# Altium integrated library NSC Amplifier.IntLib: 1615 symbols (part 34 of 44)
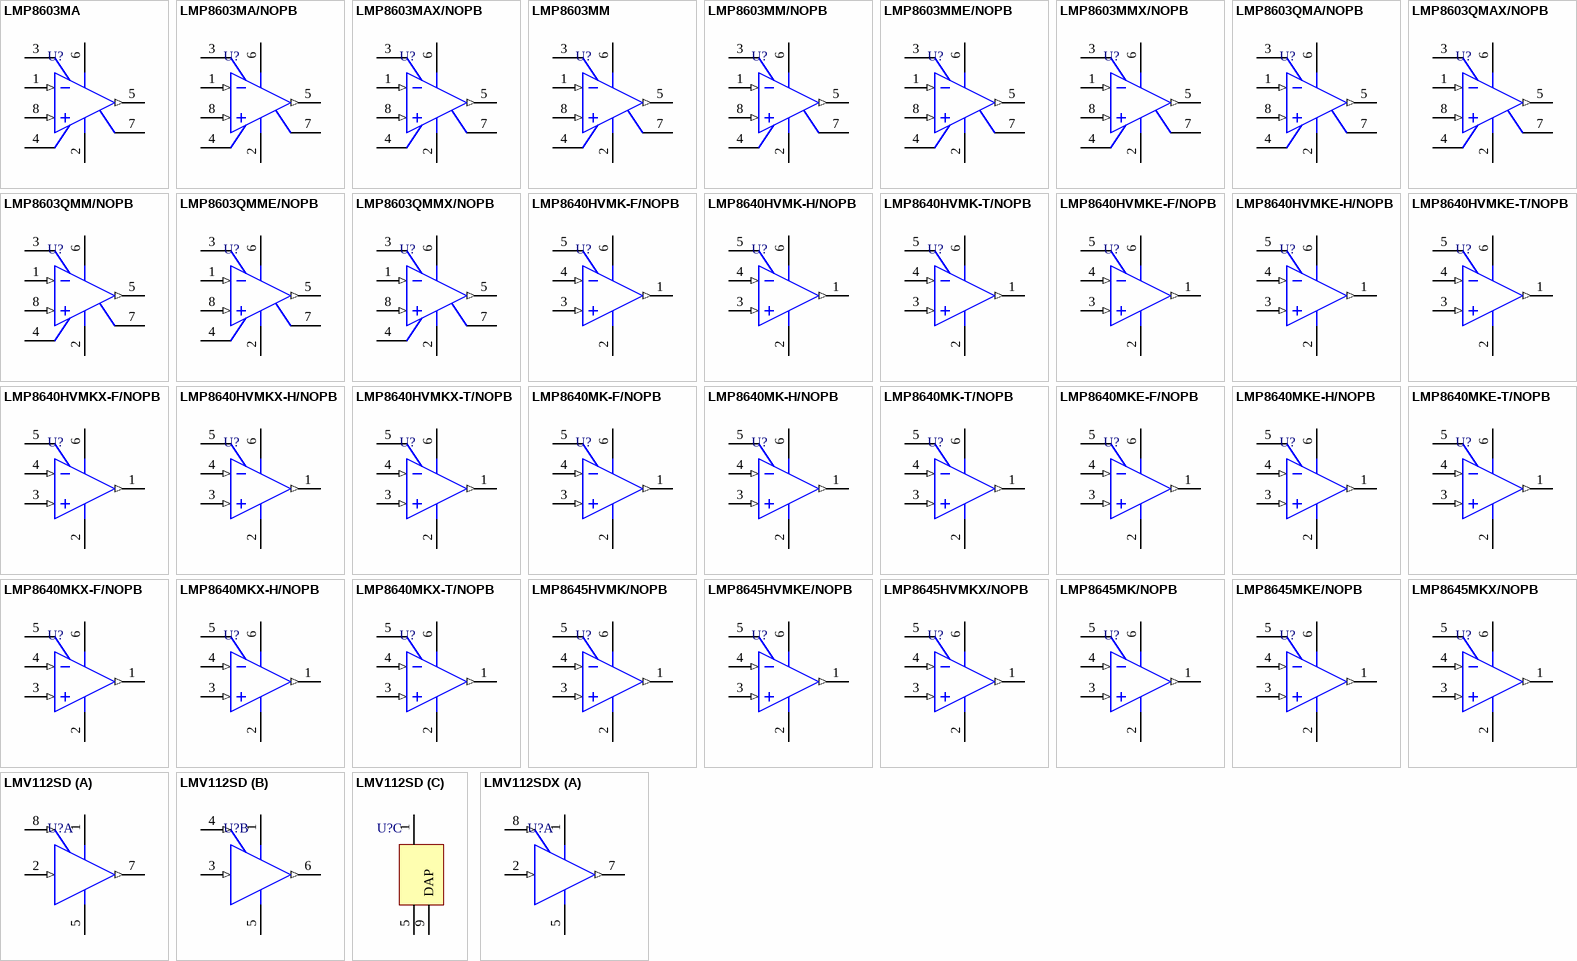
[diagram p115: symbols LMP8603MA to LMV112SDX]

## LMP8603MM
designator U?
60V Common Mode, 100 x Gain, Bidirectional Precision Current Sensing Amplifier, 8-pin Mini SOIC; PartNumber: LMP8603MM; Manufacturer: National Semiconductor; PackageTopMarking: ZXTT*AP3A; PowerWise: N; CompType: Amplifiers; Published: 9-Oct-2009; DatasheetVersion: Mar-2010; PackageVersion: revF, Apr-2008; PackageReference: MUA08A; Publisher: Altium Limited; PackageDescription: MINI SOIC, .118 x .118 x .034in, 8 Lead, .0256in Pitch; RoHS: Y; PinCount: 8; Code_JEDEC: MO-187-AA; ComponentLink1Description: LMP8602 Datasheet; ComponentLink1URL: http://www.national.com/ds/LM/LMP8602.pdf; ComponentLink2Description: LMP8603 Web Page; ComponentLink2URL: http://www.national.com/pf/LM/LMP8603.html; ComponentLink3Description: MUA08A Package Page; ComponentLink3URL: http://www.national.com/packaging/folders/mua08a.html
footprint MUA08A_N (TSOP, 8-Leads, Body 3x3mm, Pitch 0.65mm, IPC Medium Density)
footprint MUA08A_L (TSOP, 8-Leads, Body 3x3mm, Pitch 0.65mm, IPC High Density)
footprint MUA08A_M (TSOP, 8-Leads, Body 3x3mm, Pitch 0.65mm, IPC Low Density)
pins: 1 IN- (in), 2 GND (power), 3 A1, 4 A2, 5 OUT (out), 6 VS (power), 7 OFS, 8 IN+ (in)

## LMP8603MM/NOPB
designator U?
60V Common Mode, 100 x Gain, Bidirectional Precision Current Sensing Amplifier, 8-pin Mini SOIC, Pb-Free; PartNumber: LMP8603MM/NOPB; Manufacturer: National Semiconductor; PackageTopMarking: ZXTT*AP3A; PowerWise: N; CompType: Amplifiers; Published: 1-Mar-2010; DatasheetVersion: Mar-2010; PackageVersion: revF, Apr-2008; PackageReference: MUA08A; Publisher: Altium Limited; PackageDescription: MINI SOIC, .118 x .118 x .034in, 8 Lead, .0256in Pitch; Supplier 1: Digi-Key; Supplier Part Number 1: LMP8603MM-ND; RoHS: Y; PinCount: 8; Code_JEDEC: MO-187-AA; ComponentLink1Description: LMP8603 Datasheet; ComponentLink1URL: http://www.national.com/ds/LM/LMP8603.pdf; ComponentLink2Description: LMP8603 Web Page; ComponentLink2URL: http://www.national.com/pf/LM/LMP8603.html; ComponentLink3Description: MUA08A Package Page; ComponentLink3URL: http://www.national.com/packaging/folders/mua08a.html
footprint MUA08A_N (TSOP, 8-Leads, Body 3x3mm, Pitch 0.65mm, IPC Medium Density)
footprint MUA08A_L (TSOP, 8-Leads, Body 3x3mm, Pitch 0.65mm, IPC High Density)
footprint MUA08A_M (TSOP, 8-Leads, Body 3x3mm, Pitch 0.65mm, IPC Low Density)
simulation model LMP8603 (SUBCKT)
pins: 1 IN- (in), 2 GND (power), 3 A1, 4 A2, 5 OUT (out), 6 VS (power), 7 OFS, 8 IN+ (in)

## LMP8603MME/NOPB
designator U?
60V Common Mode, 100 x Gain, Bidirectional Precision Current Sensing Amplifier, 8-pin Mini SOIC, Pb-Free; PartNumber: LMP8603MME/NOPB; Manufacturer: National Semiconductor; PackageTopMarking: ZXTT*AP3A; PowerWise: N; CompType: Amplifiers; Published: 1-Mar-2010; DatasheetVersion: Mar-2010; PackageVersion: revF, Apr-2008; PackageReference: MUA08A; Publisher: Altium Limited; PackageDescription: MINI SOIC, .118 x .118 x .034in, 8 Lead, .0256in Pitch; Supplier 1: Digi-Key; Supplier Part Number 1: LMP8603MMETR-ND; Supplier 2: Digi-Key; Supplier Part Number 2: LMP8603MMECT-ND; Supplier 3: Digi-Key; Supplier Part Number 3: LMP8603MMEDKR-ND; RoHS: Y; PinCount: 8; Code_JEDEC: MO-187-AA; ComponentLink1Description: LMP8603 Datasheet; ComponentLink1URL: http://www.national.com/ds/LM/LMP8603.pdf; ComponentLink2Description: LMP8603 Web Page; ComponentLink2URL: http://www.national.com/pf/LM/LMP8603.html; ComponentLink3Description: MUA08A Package Page; ComponentLink3URL: http://www.national.com/packaging/folders/mua08a.html
footprint MUA08A_N (TSOP, 8-Leads, Body 3x3mm, Pitch 0.65mm, IPC Medium Density)
footprint MUA08A_L (TSOP, 8-Leads, Body 3x3mm, Pitch 0.65mm, IPC High Density)
footprint MUA08A_M (TSOP, 8-Leads, Body 3x3mm, Pitch 0.65mm, IPC Low Density)
simulation model LMP8603 (SUBCKT)
pins: 1 IN- (in), 2 GND (power), 3 A1, 4 A2, 5 OUT (out), 6 VS (power), 7 OFS, 8 IN+ (in)

## LMP8603MMX/NOPB
designator U?
60V Common Mode, 100 x Gain, Bidirectional Precision Current Sensing Amplifier, 8-pin Mini SOIC, Pb-Free; PartNumber: LMP8603MMX/NOPB; Manufacturer: National Semiconductor; PackageTopMarking: ZXTT*AP3A; PowerWise: N; CompType: Amplifiers; Published: 1-Mar-2010; DatasheetVersion: Mar-2010; PackageVersion: revF, Apr-2008; PackageReference: MUA08A; Publisher: Altium Limited; PackageDescription: MINI SOIC, .118 x .118 x .034in, 8 Lead, .0256in Pitch; Supplier 1: Digi-Key; Supplier Part Number 1: LMP8603MMX-ND; RoHS: Y; PinCount: 8; Code_JEDEC: MO-187-AA; ComponentLink1Description: LMP8603 Datasheet; ComponentLink1URL: http://www.national.com/ds/LM/LMP8603.pdf; ComponentLink2Description: LMP8603 Web Page; ComponentLink2URL: http://www.national.com/pf/LM/LMP8603.html; ComponentLink3Description: MUA08A Package Page; ComponentLink3URL: http://www.national.com/packaging/folders/mua08a.html
footprint MUA08A_N (TSOP, 8-Leads, Body 3x3mm, Pitch 0.65mm, IPC Medium Density)
footprint MUA08A_L (TSOP, 8-Leads, Body 3x3mm, Pitch 0.65mm, IPC High Density)
footprint MUA08A_M (TSOP, 8-Leads, Body 3x3mm, Pitch 0.65mm, IPC Low Density)
simulation model LMP8603 (SUBCKT)
pins: 1 IN- (in), 2 GND (power), 3 A1, 4 A2, 5 OUT (out), 6 VS (power), 7 OFS, 8 IN+ (in)

## LMP8603QMA/NOPB
designator U?
60V Common Mode, 100 x Gain, Bidirectional Precision Current Sensing Amplifier, 8 pin SOIC NARROW; PartNumber: LMP8603QMA/NOPB; Manufacturer: National Semiconductor; PackageTopMarking: NSZXTT*LMP86*03QMA; PowerWise: N; CompType: Amplifiers; Published: 16-Nov-2010; DatasheetVersion: Mar-2010; PackageVersion: revM, May-2009; PackageReference: M08A; Publisher: Altium Limited; PackageDescription: SOIC Narrow, 4.9 x 3.9 x 1.45mm, 8 Lead, 1.27mm Pitch; Supplier 1: Digi-Key; Supplier Part Number 1: LMP8603QMA-ND; RoHS: Y; PinCount: 8; Code_JEDEC: MS-012-AA; Code_IPC: SOIC127P600-8; ComponentLink1Description: LMP8603 Datasheet; ComponentLink1URL: http://www.national.com/ds/LM/LMP8603.pdf; ComponentLink2Description: LMP8603 Web Page; ComponentLink2URL: http://www.national.com/pf/LM/LMP8603.html; ComponentLink3Description: M08A Package Page; ComponentLink3URL: http://www.national.com/packaging/folders/m08a.html
footprint M08A_N (SOIC, 8-Leads, Body 4.9x3.9mm, Pitch 1.27mm, IPC Medium Density)
footprint M08A_L (SOIC, 8-Leads, Body 4.9x3.9mm, Pitch 1.27mm, IPC High Density)
footprint M08A_M (SOIC, 8-Leads, Body 4.9x3.9mm, Pitch 1.27mm, IPC Low Density)
pins: 1 IN- (in), 2 GND (power), 3 A1, 4 A2, 5 OUT (out), 6 VS (power), 7 OFS, 8 IN+ (in)

## LMP8603QMAX/NOPB
designator U?
60V Common Mode, 100 x Gain, Bidirectional Precision Current Sensing Amplifier, 8 pin SOIC NARROW; PartNumber: LMP8603QMAX/NOPB; Manufacturer: National Semiconductor; PackageTopMarking: NSZXTT*LMP86*03QMA; PowerWise: N; CompType: Amplifiers; Published: 16-Nov-2010; DatasheetVersion: Mar-2010; PackageVersion: revM, May-2009; PackageReference: M08A; Publisher: Altium Limited; PackageDescription: SOIC Narrow, 4.9 x 3.9 x 1.45mm, 8 Lead, 1.27mm Pitch; Supplier 1: Digi-Key; Supplier Part Number 1: LMP8603QMAX-ND; RoHS: Y; PinCount: 8; Code_JEDEC: MS-012-AA; Code_IPC: SOIC127P600-8; ComponentLink1Description: LMP8603 Datasheet; ComponentLink1URL: http://www.national.com/ds/LM/LMP8603.pdf; ComponentLink2Description: LMP8603 Web Page; ComponentLink2URL: http://www.national.com/pf/LM/LMP8603.html; ComponentLink3Description: M08A Package Page; ComponentLink3URL: http://www.national.com/packaging/folders/m08a.html
footprint M08A_N (SOIC, 8-Leads, Body 4.9x3.9mm, Pitch 1.27mm, IPC Medium Density)
footprint M08A_L (SOIC, 8-Leads, Body 4.9x3.9mm, Pitch 1.27mm, IPC High Density)
footprint M08A_M (SOIC, 8-Leads, Body 4.9x3.9mm, Pitch 1.27mm, IPC Low Density)
pins: 1 IN- (in), 2 GND (power), 3 A1, 4 A2, 5 OUT (out), 6 VS (power), 7 OFS, 8 IN+ (in)

## LMP8603QMM/NOPB
designator U?
60V Common Mode, 100 x Gain, Bidirectional Precision Current Sensing Amplifier, 8 pin Mini SOIC, Pb-Free; PartNumber: LMP8603QMM/NOPB; Manufacturer: National Semiconductor; PackageTopMarking: ZXTT*AH7A; PowerWise: N; CompType: Amplifiers; Published: 1-Mar-2010; DatasheetVersion: Mar-2010; PackageVersion: revF, Apr-2008; PackageReference: MUA08A; Publisher: Altium Limited; PackageDescription: MINI SOIC, .118 x .118 x .034in, 8 Lead, .0256in Pitch; Supplier 1: Digi-Key; Supplier Part Number 1: LMP8603QMM-ND; RoHS: Y; PinCount: 8; Code_JEDEC: MO-187-AA; ComponentLink1Description: LMP8603 Datasheet; ComponentLink1URL: http://www.national.com/ds/LM/LMP8603.pdf; ComponentLink2Description: LMP8603 Web Page; ComponentLink2URL: http://www.national.com/pf/LM/LMP8603.html; ComponentLink3Description: MUA08A Package Page; ComponentLink3URL: http://www.national.com/packaging/folders/mua08a.html
footprint MUA08A_N (TSOP, 8-Leads, Body 3x3mm, Pitch 0.65mm, IPC Medium Density)
footprint MUA08A_L (TSOP, 8-Leads, Body 3x3mm, Pitch 0.65mm, IPC High Density)
footprint MUA08A_M (TSOP, 8-Leads, Body 3x3mm, Pitch 0.65mm, IPC Low Density)
simulation model LMP8603 (SUBCKT)
pins: 1 IN- (in), 2 GND (power), 3 A1, 4 A2, 5 OUT (out), 6 VS (power), 7 OFS, 8 IN+ (in)

## LMP8603QMME/NOPB
designator U?
60V Common Mode, 100 x Gain, Bidirectional Precision Current Sensing Amplifier, 8 pin Mini SOIC, Pb-Free; PartNumber: LMP8603QMME/NOPB; Manufacturer: National Semiconductor; PackageTopMarking: ZXTT*AH7A; PowerWise: N; CompType: Amplifiers; Published: 1-Mar-2010; DatasheetVersion: Mar-2010; PackageVersion: revF, Apr-2008; PackageReference: MUA08A; Publisher: Altium Limited; PackageDescription: MINI SOIC, .118 x .118 x .034in, 8 Lead, .0256in Pitch; Supplier 1: Digi-Key; Supplier Part Number 1: LMP8603QMMETR-ND; Supplier 2: Digi-Key; Supplier Part Number 2: LMP8603QMMECT-ND; Supplier 3: Digi-Key; Supplier Part Number 3: LMP8603QMMEDKR-ND; RoHS: Y; PinCount: 8; Code_JEDEC: MO-187-AA; ComponentLink1Description: LMP8603 Datasheet; ComponentLink1URL: http://www.national.com/ds/LM/LMP8603.pdf; ComponentLink2Description: LMP8603 Web Page; ComponentLink2URL: http://www.national.com/pf/LM/LMP8603.html; ComponentLink3Description: MUA08A Package Page; ComponentLink3URL: http://www.national.com/packaging/folders/mua08a.html
footprint MUA08A_N (TSOP, 8-Leads, Body 3x3mm, Pitch 0.65mm, IPC Medium Density)
footprint MUA08A_L (TSOP, 8-Leads, Body 3x3mm, Pitch 0.65mm, IPC High Density)
footprint MUA08A_M (TSOP, 8-Leads, Body 3x3mm, Pitch 0.65mm, IPC Low Density)
simulation model LMP8603 (SUBCKT)
pins: 1 IN- (in), 2 GND (power), 3 A1, 4 A2, 5 OUT (out), 6 VS (power), 7 OFS, 8 IN+ (in)

## LMP8603QMMX/NOPB
designator U?
60V Common Mode, 100 x Gain, Bidirectional Precision Current Sensing Amplifier, 8 pin Mini SOIC, Pb-Free; PartNumber: LMP8603QMMX/NOPB; Manufacturer: National Semiconductor; PackageTopMarking: ZXTT*AH7A; PowerWise: N; CompType: Amplifiers; Published: 1-Mar-2010; DatasheetVersion: Mar-2010; PackageVersion: revF, Apr-2008; PackageReference: MUA08A; Publisher: Altium Limited; PackageDescription: MINI SOIC, .118 x .118 x .034in, 8 Lead, .0256in Pitch; Supplier 1: Digi-Key; Supplier Part Number 1: LMP8603QMMX-ND; RoHS: Y; PinCount: 8; Code_JEDEC: MO-187-AA; ComponentLink1Description: LMP8603 Datasheet; ComponentLink1URL: http://www.national.com/ds/LM/LMP8603.pdf; ComponentLink2Description: LMP8603 Web Page; ComponentLink2URL: http://www.national.com/pf/LM/LMP8603.html; ComponentLink3Description: MUA08A Package Page; ComponentLink3URL: http://www.national.com/packaging/folders/mua08a.html
footprint MUA08A_N (TSOP, 8-Leads, Body 3x3mm, Pitch 0.65mm, IPC Medium Density)
footprint MUA08A_L (TSOP, 8-Leads, Body 3x3mm, Pitch 0.65mm, IPC High Density)
footprint MUA08A_M (TSOP, 8-Leads, Body 3x3mm, Pitch 0.65mm, IPC Low Density)
simulation model LMP8603 (SUBCKT)
pins: 1 IN- (in), 2 GND (power), 3 A1, 4 A2, 5 OUT (out), 6 VS (power), 7 OFS, 8 IN+ (in)

## LMP8640HVMK-F/NOPB
designator U?
Precision High Voltage Current Sense Amplifier, 6 pin TSOT; PartNumber: LMP8640HVMK-F/NOPB; Manufacturer: National Semiconductor; PackageTopMarking: AD6A*XTT; PowerWise: N; CompType: Amplifiers; Published: 16-Nov-2010; DatasheetVersion: Sep-2010; PackageVersion: revE, Nov-2008; PackageReference: MK06A; Publisher: Altium Limited; PackageDescription: Molded TSOT, 2.97 x 1.65 x 0.87mm Body, 6 Lead, 0.95mm Pitch; Supplier 1: Digi-Key; Supplier Part Number 1: LMP8640HVMK-F/NOPB-ND; RoHS: Y; PinCount: 6; Code_JEDEC: MO-193-AA; Code_IPC: SOT26A-6; ComponentLink1Description: LMP8640 Datasheet; ComponentLink1URL: http://www.national.com/ds/LM/LMP8640.pdf; ComponentLink2Description: LMP8640 Web Page; ComponentLink2URL: http://www.national.com/pf/LM/LMP8640.html; ComponentLink3Description: MK06A Package Page; ComponentLink3URL: http://www.national.com/packaging/folders/mk06a.html
footprint MK06A_N (SOT23, 6-Leads, Body 3.0x1.7mm, Pitch 0.95mm, Lead Span 2.9mm, IPC Medium Density)
footprint MK06A_L (SOT23, 6-Leads, Body 3.0x1.7mm, Pitch 0.95mm, Lead Span 2.9mm, IPC High Density)
footprint MK06A_M (SOT23, 6-Leads, Body 3.0x1.7mm, Pitch 0.95mm, Lead Span 2.9mm, IPC Low Density)
pins: 1 VOUT (out), 2 V- (power), 3 +IN (in), 4 -IN (in), 5 NC, 6 V+ (power)

## LMP8640HVMK-H/NOPB
designator U?
Precision High Voltage Current Sense Amplifier, 6 pin TSOT; PartNumber: LMP8640HVMK-H/NOPB; Manufacturer: National Semiconductor; PackageTopMarking: AF6A*XTT; PowerWise: N; CompType: Amplifiers; Published: 16-Nov-2010; DatasheetVersion: Sep-2010; PackageVersion: revE, Nov-2008; PackageReference: MK06A; Publisher: Altium Limited; PackageDescription: Molded TSOT, 2.97 x 1.65 x 0.87mm Body, 6 Lead, 0.95mm Pitch; Supplier 1: Digi-Key; Supplier Part Number 1: LMP8640HVMK-H/NOPB-ND; RoHS: Y; PinCount: 6; Code_JEDEC: MO-193-AA; Code_IPC: SOT26A-6; ComponentLink1Description: LMP8640 Datasheet; ComponentLink1URL: http://www.national.com/ds/LM/LMP8640.pdf; ComponentLink2Description: LMP8640 Web Page; ComponentLink2URL: http://www.national.com/pf/LM/LMP8640.html; ComponentLink3Description: MK06A Package Page; ComponentLink3URL: http://www.national.com/packaging/folders/mk06a.html
footprint MK06A_N (SOT23, 6-Leads, Body 3.0x1.7mm, Pitch 0.95mm, Lead Span 2.9mm, IPC Medium Density)
footprint MK06A_L (SOT23, 6-Leads, Body 3.0x1.7mm, Pitch 0.95mm, Lead Span 2.9mm, IPC High Density)
footprint MK06A_M (SOT23, 6-Leads, Body 3.0x1.7mm, Pitch 0.95mm, Lead Span 2.9mm, IPC Low Density)
pins: 1 VOUT (out), 2 V- (power), 3 +IN (in), 4 -IN (in), 5 NC, 6 V+ (power)

## LMP8640HVMK-T/NOPB
designator U?
Precision High Voltage Current Sense Amplifier, 6 pin TSOT; PartNumber: LMP8640HVMK-T/NOPB; Manufacturer: National Semiconductor; PackageTopMarking: AB6A*XTT; PowerWise: N; CompType: Amplifiers; Published: 16-Nov-2010; DatasheetVersion: Sep-2010; PackageVersion: revE, Nov-2008; PackageReference: MK06A; Publisher: Altium Limited; PackageDescription: Molded TSOT, 2.97 x 1.65 x 0.87mm Body, 6 Lead, 0.95mm Pitch; Supplier 1: Digi-Key; Supplier Part Number 1: LMP8640HVMK-T/NOPB-ND; RoHS: Y; PinCount: 6; Code_JEDEC: MO-193-AA; Code_IPC: SOT26A-6; ComponentLink1Description: LMP8640 Datasheet; ComponentLink1URL: http://www.national.com/ds/LM/LMP8640.pdf; ComponentLink2Description: LMP8640 Web Page; ComponentLink2URL: http://www.national.com/pf/LM/LMP8640.html; ComponentLink3Description: MK06A Package Page; ComponentLink3URL: http://www.national.com/packaging/folders/mk06a.html
footprint MK06A_N (SOT23, 6-Leads, Body 3.0x1.7mm, Pitch 0.95mm, Lead Span 2.9mm, IPC Medium Density)
footprint MK06A_L (SOT23, 6-Leads, Body 3.0x1.7mm, Pitch 0.95mm, Lead Span 2.9mm, IPC High Density)
footprint MK06A_M (SOT23, 6-Leads, Body 3.0x1.7mm, Pitch 0.95mm, Lead Span 2.9mm, IPC Low Density)
pins: 1 VOUT (out), 2 V- (power), 3 +IN (in), 4 -IN (in), 5 NC, 6 V+ (power)

## LMP8640HVMKE-F/NOPB
designator U?
Precision High Voltage Current Sense Amplifier, 6 pin TSOT; PartNumber: LMP8640HVMKE-F/NOPB; Manufacturer: National Semiconductor; PackageTopMarking: AD6A*XTT; PowerWise: N; CompType: Amplifiers; Published: 16-Nov-2010; DatasheetVersion: Sep-2010; PackageVersion: revE, Nov-2008; PackageReference: MK06A; Publisher: Altium Limited; PackageDescription: Molded TSOT, 2.97 x 1.65 x 0.87mm Body, 6 Lead, 0.95mm Pitch; Supplier 1: Digi-Key; Supplier Part Number 1: LMP8640HVMKE-F/NOPBTR-ND; Supplier 2: Digi-Key; Supplier Part Number 2: LMP8640HVMKE-F/NOPBCT-ND; Supplier 3: Digi-Key; Supplier Part Number 3: LMP8640HVMKE-F/NOPBDKR-ND; RoHS: Y; PinCount: 6; Code_JEDEC: MO-193-AA; Code_IPC: SOT26A-6; ComponentLink1Description: LMP8640 Datasheet; ComponentLink1URL: http://www.national.com/ds/LM/LMP8640.pdf; ComponentLink2Description: LMP8640 Web Page; ComponentLink2URL: http://www.national.com/pf/LM/LMP8640.html; ComponentLink3Description: MK06A Package Page; ComponentLink3URL: http://www.national.com/packaging/folders/mk06a.html
footprint MK06A_N (SOT23, 6-Leads, Body 3.0x1.7mm, Pitch 0.95mm, Lead Span 2.9mm, IPC Medium Density)
footprint MK06A_L (SOT23, 6-Leads, Body 3.0x1.7mm, Pitch 0.95mm, Lead Span 2.9mm, IPC High Density)
footprint MK06A_M (SOT23, 6-Leads, Body 3.0x1.7mm, Pitch 0.95mm, Lead Span 2.9mm, IPC Low Density)
pins: 1 VOUT (out), 2 V- (power), 3 +IN (in), 4 -IN (in), 5 NC, 6 V+ (power)

## LMP8640HVMKE-H/NOPB
designator U?
Precision High Voltage Current Sense Amplifier, 6 pin TSOT; PartNumber: LMP8640HVMKE-H/NOPB; Manufacturer: National Semiconductor; PackageTopMarking: AF6A*XTT; PowerWise: N; CompType: Amplifiers; Published: 16-Nov-2010; DatasheetVersion: Sep-2010; PackageVersion: revE, Nov-2008; PackageReference: MK06A; Publisher: Altium Limited; PackageDescription: Molded TSOT, 2.97 x 1.65 x 0.87mm Body, 6 Lead, 0.95mm Pitch; Supplier 1: Digi-Key; Supplier Part Number 1: LMP8640HVMKE-H/NOPBTR-ND; Supplier 2: Digi-Key; Supplier Part Number 2: LMP8640HVMKE-H/NOPBCT-ND; Supplier 3: Digi-Key; Supplier Part Number 3: LMP8640HVMKE-H/NOPBDKR-ND; RoHS: Y; PinCount: 6; Code_JEDEC: MO-193-AA; Code_IPC: SOT26A-6; ComponentLink1Description: LMP8640 Datasheet; ComponentLink1URL: http://www.national.com/ds/LM/LMP8640.pdf; ComponentLink2Description: LMP8640 Web Page; ComponentLink2URL: http://www.national.com/pf/LM/LMP8640.html; ComponentLink3Description: MK06A Package Page; ComponentLink3URL: http://www.national.com/packaging/folders/mk06a.html
footprint MK06A_N (SOT23, 6-Leads, Body 3.0x1.7mm, Pitch 0.95mm, Lead Span 2.9mm, IPC Medium Density)
footprint MK06A_L (SOT23, 6-Leads, Body 3.0x1.7mm, Pitch 0.95mm, Lead Span 2.9mm, IPC High Density)
footprint MK06A_M (SOT23, 6-Leads, Body 3.0x1.7mm, Pitch 0.95mm, Lead Span 2.9mm, IPC Low Density)
pins: 1 VOUT (out), 2 V- (power), 3 +IN (in), 4 -IN (in), 5 NC, 6 V+ (power)

## LMP8640HVMKE-T/NOPB
designator U?
Precision High Voltage Current Sense Amplifier, 6 pin TSOT; PartNumber: LMP8640HVMKE-T/NOPB; Manufacturer: National Semiconductor; PackageTopMarking: AB6A*XTT; PowerWise: N; CompType: Amplifiers; Published: 16-Nov-2010; DatasheetVersion: Sep-2010; PackageVersion: revE, Nov-2008; PackageReference: MK06A; Publisher: Altium Limited; PackageDescription: Molded TSOT, 2.97 x 1.65 x 0.87mm Body, 6 Lead, 0.95mm Pitch; Supplier 1: Digi-Key; Supplier Part Number 1: LMP8640HVMKE-T/NOPBTR-ND; Supplier 2: Digi-Key; Supplier Part Number 2: LMP8640HVMKE-T/NOPBCT-ND; Supplier 3: Digi-Key; Supplier Part Number 3: LMP8640HVMKE-T/NOPBDKR-ND; RoHS: Y; PinCount: 6; Code_JEDEC: MO-193-AA; Code_IPC: SOT26A-6; ComponentLink1Description: LMP8640 Datasheet; ComponentLink1URL: http://www.national.com/ds/LM/LMP8640.pdf; ComponentLink2Description: LMP8640 Web Page; ComponentLink2URL: http://www.national.com/pf/LM/LMP8640.html; ComponentLink3Description: MK06A Package Page; ComponentLink3URL: http://www.national.com/packaging/folders/mk06a.html
footprint MK06A_N (SOT23, 6-Leads, Body 3.0x1.7mm, Pitch 0.95mm, Lead Span 2.9mm, IPC Medium Density)
footprint MK06A_L (SOT23, 6-Leads, Body 3.0x1.7mm, Pitch 0.95mm, Lead Span 2.9mm, IPC High Density)
footprint MK06A_M (SOT23, 6-Leads, Body 3.0x1.7mm, Pitch 0.95mm, Lead Span 2.9mm, IPC Low Density)
pins: 1 VOUT (out), 2 V- (power), 3 +IN (in), 4 -IN (in), 5 NC, 6 V+ (power)

## LMP8640HVMKX-F/NOPB
designator U?
Precision High Voltage Current Sense Amplifier, 6 pin TSOT; PartNumber: LMP8640HVMKX-F/NOPB; Manufacturer: National Semiconductor; PackageTopMarking: AD6A*XTT; PowerWise: N; CompType: Amplifiers; Published: 16-Nov-2010; DatasheetVersion: Sep-2010; PackageVersion: revE, Nov-2008; PackageReference: MK06A; Publisher: Altium Limited; PackageDescription: Molded TSOT, 2.97 x 1.65 x 0.87mm Body, 6 Lead, 0.95mm Pitch; Supplier 1: Digi-Key; Supplier Part Number 1: LMP8640HVMKX-F/NOPB-ND; RoHS: Y; PinCount: 6; Code_JEDEC: MO-193-AA; Code_IPC: SOT26A-6; ComponentLink1Description: LMP8640 Datasheet; ComponentLink1URL: http://www.national.com/ds/LM/LMP8640.pdf; ComponentLink2Description: LMP8640 Web Page; ComponentLink2URL: http://www.national.com/pf/LM/LMP8640.html; ComponentLink3Description: MK06A Package Page; ComponentLink3URL: http://www.national.com/packaging/folders/mk06a.html
footprint MK06A_N (SOT23, 6-Leads, Body 3.0x1.7mm, Pitch 0.95mm, Lead Span 2.9mm, IPC Medium Density)
footprint MK06A_L (SOT23, 6-Leads, Body 3.0x1.7mm, Pitch 0.95mm, Lead Span 2.9mm, IPC High Density)
footprint MK06A_M (SOT23, 6-Leads, Body 3.0x1.7mm, Pitch 0.95mm, Lead Span 2.9mm, IPC Low Density)
pins: 1 VOUT (out), 2 V- (power), 3 +IN (in), 4 -IN (in), 5 NC, 6 V+ (power)

## LMP8640HVMKX-H/NOPB
designator U?
Precision High Voltage Current Sense Amplifier, 6 pin TSOT; PartNumber: LMP8640HVMKX-H/NOPB; Manufacturer: National Semiconductor; PackageTopMarking: AF6A*XTT; PowerWise: N; CompType: Amplifiers; Published: 16-Nov-2010; DatasheetVersion: Sep-2010; PackageVersion: revE, Nov-2008; PackageReference: MK06A; Publisher: Altium Limited; PackageDescription: Molded TSOT, 2.97 x 1.65 x 0.87mm Body, 6 Lead, 0.95mm Pitch; Supplier 1: Digi-Key; Supplier Part Number 1: LMP8640HVMKX-H/NOPB-ND; RoHS: Y; PinCount: 6; Code_JEDEC: MO-193-AA; Code_IPC: SOT26A-6; ComponentLink1Description: LMP8640 Datasheet; ComponentLink1URL: http://www.national.com/ds/LM/LMP8640.pdf; ComponentLink2Description: LMP8640 Web Page; ComponentLink2URL: http://www.national.com/pf/LM/LMP8640.html; ComponentLink3Description: MK06A Package Page; ComponentLink3URL: http://www.national.com/packaging/folders/mk06a.html
footprint MK06A_N (SOT23, 6-Leads, Body 3.0x1.7mm, Pitch 0.95mm, Lead Span 2.9mm, IPC Medium Density)
footprint MK06A_L (SOT23, 6-Leads, Body 3.0x1.7mm, Pitch 0.95mm, Lead Span 2.9mm, IPC High Density)
footprint MK06A_M (SOT23, 6-Leads, Body 3.0x1.7mm, Pitch 0.95mm, Lead Span 2.9mm, IPC Low Density)
pins: 1 VOUT (out), 2 V- (power), 3 +IN (in), 4 -IN (in), 5 NC, 6 V+ (power)

## LMP8640HVMKX-T/NOPB
designator U?
Precision High Voltage Current Sense Amplifier, 6 pin TSOT; PartNumber: LMP8640HVMKX-T/NOPB; Manufacturer: National Semiconductor; PackageTopMarking: AB6A*XTT; PowerWise: N; CompType: Amplifiers; Published: 16-Nov-2010; DatasheetVersion: Sep-2010; PackageVersion: revE, Nov-2008; PackageReference: MK06A; Publisher: Altium Limited; PackageDescription: Molded TSOT, 2.97 x 1.65 x 0.87mm Body, 6 Lead, 0.95mm Pitch; Supplier 1: Digi-Key; Supplier Part Number 1: LMP8640HVMKX-T/NOPB-ND; RoHS: Y; PinCount: 6; Code_JEDEC: MO-193-AA; Code_IPC: SOT26A-6; ComponentLink1Description: LMP8640 Datasheet; ComponentLink1URL: http://www.national.com/ds/LM/LMP8640.pdf; ComponentLink2Description: LMP8640 Web Page; ComponentLink2URL: http://www.national.com/pf/LM/LMP8640.html; ComponentLink3Description: MK06A Package Page; ComponentLink3URL: http://www.national.com/packaging/folders/mk06a.html
footprint MK06A_N (SOT23, 6-Leads, Body 3.0x1.7mm, Pitch 0.95mm, Lead Span 2.9mm, IPC Medium Density)
footprint MK06A_L (SOT23, 6-Leads, Body 3.0x1.7mm, Pitch 0.95mm, Lead Span 2.9mm, IPC High Density)
footprint MK06A_M (SOT23, 6-Leads, Body 3.0x1.7mm, Pitch 0.95mm, Lead Span 2.9mm, IPC Low Density)
pins: 1 VOUT (out), 2 V- (power), 3 +IN (in), 4 -IN (in), 5 NC, 6 V+ (power)

## LMP8640MK-F/NOPB
designator U?
Precision High Voltage Current Sense Amplifier, 6 pin TSOT; PartNumber: LMP8640MK-F/NOPB; Manufacturer: National Semiconductor; PackageTopMarking: AC6A*XTT; PowerWise: N; CompType: Amplifiers; Published: 16-Nov-2010; DatasheetVersion: Sep-2010; PackageVersion: revE, Nov-2008; PackageReference: MK06A; Publisher: Altium Limited; PackageDescription: Molded TSOT, 2.97 x 1.65 x 0.87mm Body, 6 Lead, 0.95mm Pitch; Supplier 1: Digi-Key; Supplier Part Number 1: LMP8640MK-F/NOPBTR-ND; Supplier 2: Digi-Key; Supplier Part Number 2: LMP8640MK-F/NOPBCT-ND; Supplier 3: Digi-Key; Supplier Part Number 3: LMP8640MK-F/NOPBDKR-ND; RoHS: Y; PinCount: 6; Code_JEDEC: MO-193-AA; Code_IPC: SOT26A-6; ComponentLink1Description: LMP8640 Datasheet; ComponentLink1URL: http://www.national.com/ds/LM/LMP8640.pdf; ComponentLink2Description: LMP8640 Web Page; ComponentLink2URL: http://www.national.com/pf/LM/LMP8640.html; ComponentLink3Description: MK06A Package Page; ComponentLink3URL: http://www.national.com/packaging/folders/mk06a.html
footprint MK06A_N (SOT23, 6-Leads, Body 3.0x1.7mm, Pitch 0.95mm, Lead Span 2.9mm, IPC Medium Density)
footprint MK06A_L (SOT23, 6-Leads, Body 3.0x1.7mm, Pitch 0.95mm, Lead Span 2.9mm, IPC High Density)
footprint MK06A_M (SOT23, 6-Leads, Body 3.0x1.7mm, Pitch 0.95mm, Lead Span 2.9mm, IPC Low Density)
pins: 1 VOUT (out), 2 V- (power), 3 +IN (in), 4 -IN (in), 5 NC, 6 V+ (power)

## LMP8640MK-H/NOPB
designator U?
Precision High Voltage Current Sense Amplifier, 6 pin TSOT; PartNumber: LMP8640MK-H/NOPB; Manufacturer: National Semiconductor; PackageTopMarking: AE6A*XTT; PowerWise: N; CompType: Amplifiers; Published: 16-Nov-2010; DatasheetVersion: Sep-2010; PackageVersion: revE, Nov-2008; PackageReference: MK06A; Publisher: Altium Limited; PackageDescription: Molded TSOT, 2.97 x 1.65 x 0.87mm Body, 6 Lead, 0.95mm Pitch; Supplier 1: Digi-Key; Supplier Part Number 1: LMP8640MK-H/NOPBTR-ND; Supplier 2: Digi-Key; Supplier Part Number 2: LMP8640MK-H/NOPBCT-ND; Supplier 3: Digi-Key; Supplier Part Number 3: LMP8640MK-H/NOPBDKR-ND; RoHS: Y; PinCount: 6; Code_JEDEC: MO-193-AA; Code_IPC: SOT26A-6; ComponentLink1Description: LMP8640 Datasheet; ComponentLink1URL: http://www.national.com/ds/LM/LMP8640.pdf; ComponentLink2Description: LMP8640 Web Page; ComponentLink2URL: http://www.national.com/pf/LM/LMP8640.html; ComponentLink3Description: MK06A Package Page; ComponentLink3URL: http://www.national.com/packaging/folders/mk06a.html
footprint MK06A_N (SOT23, 6-Leads, Body 3.0x1.7mm, Pitch 0.95mm, Lead Span 2.9mm, IPC Medium Density)
footprint MK06A_L (SOT23, 6-Leads, Body 3.0x1.7mm, Pitch 0.95mm, Lead Span 2.9mm, IPC High Density)
footprint MK06A_M (SOT23, 6-Leads, Body 3.0x1.7mm, Pitch 0.95mm, Lead Span 2.9mm, IPC Low Density)
pins: 1 VOUT (out), 2 V- (power), 3 +IN (in), 4 -IN (in), 5 NC, 6 V+ (power)

## LMP8640MK-T/NOPB
designator U?
Precision High Voltage Current Sense Amplifier, 6 pin TSOT; PartNumber: LMP8640MK-T/NOPB; Manufacturer: National Semiconductor; PackageTopMarking: AA6A*XTT; PowerWise: N; CompType: Amplifiers; Published: 16-Nov-2010; DatasheetVersion: Sep-2010; PackageVersion: revE, Nov-2008; PackageReference: MK06A; Publisher: Altium Limited; PackageDescription: Molded TSOT, 2.97 x 1.65 x 0.87mm Body, 6 Lead, 0.95mm Pitch; Supplier 1: Digi-Key; Supplier Part Number 1: LMP8640MK-T/NOPBTR-ND; Supplier 2: Digi-Key; Supplier Part Number 2: LMP8640MK-T/NOPBCT-ND; Supplier 3: Digi-Key; Supplier Part Number 3: LMP8640MK-T/NOPBDKR-ND; RoHS: Y; PinCount: 6; Code_JEDEC: MO-193-AA; Code_IPC: SOT26A-6; ComponentLink1Description: LMP8640 Datasheet; ComponentLink1URL: http://www.national.com/ds/LM/LMP8640.pdf; ComponentLink2Description: LMP8640 Web Page; ComponentLink2URL: http://www.national.com/pf/LM/LMP8640.html; ComponentLink3Description: MK06A Package Page; ComponentLink3URL: http://www.national.com/packaging/folders/mk06a.html
footprint MK06A_N (SOT23, 6-Leads, Body 3.0x1.7mm, Pitch 0.95mm, Lead Span 2.9mm, IPC Medium Density)
footprint MK06A_L (SOT23, 6-Leads, Body 3.0x1.7mm, Pitch 0.95mm, Lead Span 2.9mm, IPC High Density)
footprint MK06A_M (SOT23, 6-Leads, Body 3.0x1.7mm, Pitch 0.95mm, Lead Span 2.9mm, IPC Low Density)
pins: 1 VOUT (out), 2 V- (power), 3 +IN (in), 4 -IN (in), 5 NC, 6 V+ (power)

## LMP8640MKE-F/NOPB
designator U?
Precision High Voltage Current Sense Amplifier, 6 pin TSOT; PartNumber: LMP8640MKE-F/NOPB; Manufacturer: National Semiconductor; PackageTopMarking: AC6A*XTT; PowerWise: N; CompType: Amplifiers; Published: 16-Nov-2010; DatasheetVersion: Sep-2010; PackageVersion: revE, Nov-2008; PackageReference: MK06A; Publisher: Altium Limited; PackageDescription: Molded TSOT, 2.97 x 1.65 x 0.87mm Body, 6 Lead, 0.95mm Pitch; Supplier 1: Digi-Key; Supplier Part Number 1: LMP8640MKE-F/NOPBTR-ND; Supplier 2: Digi-Key; Supplier Part Number 2: LMP8640MKE-F/NOPBCT-ND; Supplier 3: Digi-Key; Supplier Part Number 3: LMP8640MKE-F/NOPBDKR-ND; RoHS: Y; PinCount: 6; Code_JEDEC: MO-193-AA; Code_IPC: SOT26A-6; ComponentLink1Description: LMP8640 Datasheet; ComponentLink1URL: http://www.national.com/ds/LM/LMP8640.pdf; ComponentLink2Description: LMP8640 Web Page; ComponentLink2URL: http://www.national.com/pf/LM/LMP8640.html; ComponentLink3Description: MK06A Package Page; ComponentLink3URL: http://www.national.com/packaging/folders/mk06a.html
footprint MK06A_N (SOT23, 6-Leads, Body 3.0x1.7mm, Pitch 0.95mm, Lead Span 2.9mm, IPC Medium Density)
footprint MK06A_L (SOT23, 6-Leads, Body 3.0x1.7mm, Pitch 0.95mm, Lead Span 2.9mm, IPC High Density)
footprint MK06A_M (SOT23, 6-Leads, Body 3.0x1.7mm, Pitch 0.95mm, Lead Span 2.9mm, IPC Low Density)
pins: 1 VOUT (out), 2 V- (power), 3 +IN (in), 4 -IN (in), 5 NC, 6 V+ (power)

## LMP8640MKE-H/NOPB
designator U?
Precision High Voltage Current Sense Amplifier, 6 pin TSOT; PartNumber: LMP8640MKE-H/NOPB; Manufacturer: National Semiconductor; PackageTopMarking: AE6A*XTT; PowerWise: N; CompType: Amplifiers; Published: 16-Nov-2010; DatasheetVersion: Sep-2010; PackageVersion: revE, Nov-2008; PackageReference: MK06A; Publisher: Altium Limited; PackageDescription: Molded TSOT, 2.97 x 1.65 x 0.87mm Body, 6 Lead, 0.95mm Pitch; Supplier 1: Digi-Key; Supplier Part Number 1: LMP8640MKE-H/NOPBTR-ND; Supplier 2: Digi-Key; Supplier Part Number 2: LMP8640MKE-H/NOPBCT-ND; Supplier 3: Digi-Key; Supplier Part Number 3: LMP8640MKE-H/NOPBDKR-ND; RoHS: Y; PinCount: 6; Code_JEDEC: MO-193-AA; Code_IPC: SOT26A-6; ComponentLink1Description: LMP8640 Datasheet; ComponentLink1URL: http://www.national.com/ds/LM/LMP8640.pdf; ComponentLink2Description: LMP8640 Web Page; ComponentLink2URL: http://www.national.com/pf/LM/LMP8640.html; ComponentLink3Description: MK06A Package Page; ComponentLink3URL: http://www.national.com/packaging/folders/mk06a.html
footprint MK06A_N (SOT23, 6-Leads, Body 3.0x1.7mm, Pitch 0.95mm, Lead Span 2.9mm, IPC Medium Density)
footprint MK06A_L (SOT23, 6-Leads, Body 3.0x1.7mm, Pitch 0.95mm, Lead Span 2.9mm, IPC High Density)
footprint MK06A_M (SOT23, 6-Leads, Body 3.0x1.7mm, Pitch 0.95mm, Lead Span 2.9mm, IPC Low Density)
pins: 1 VOUT (out), 2 V- (power), 3 +IN (in), 4 -IN (in), 5 NC, 6 V+ (power)

## LMP8640MKE-T/NOPB
designator U?
Precision High Voltage Current Sense Amplifier, 6 pin TSOT; PartNumber: LMP8640MKE-T/NOPB; Manufacturer: National Semiconductor; PackageTopMarking: AA6A*XTT; PowerWise: N; CompType: Amplifiers; Published: 16-Nov-2010; DatasheetVersion: Sep-2010; PackageVersion: revE, Nov-2008; PackageReference: MK06A; Publisher: Altium Limited; PackageDescription: Molded TSOT, 2.97 x 1.65 x 0.87mm Body, 6 Lead, 0.95mm Pitch; Supplier 1: Digi-Key; Supplier Part Number 1: LMP8640MKE-T/NOPBTR-ND; Supplier 2: Digi-Key; Supplier Part Number 2: LMP8640MKE-T/NOPBCT-ND; Supplier 3: Digi-Key; Supplier Part Number 3: LMP8640MKE-T/NOPBDKR-ND; RoHS: Y; PinCount: 6; Code_JEDEC: MO-193-AA; Code_IPC: SOT26A-6; ComponentLink1Description: LMP8640 Datasheet; ComponentLink1URL: http://www.national.com/ds/LM/LMP8640.pdf; ComponentLink2Description: LMP8640 Web Page; ComponentLink2URL: http://www.national.com/pf/LM/LMP8640.html; ComponentLink3Description: MK06A Package Page; ComponentLink3URL: http://www.national.com/packaging/folders/mk06a.html
footprint MK06A_N (SOT23, 6-Leads, Body 3.0x1.7mm, Pitch 0.95mm, Lead Span 2.9mm, IPC Medium Density)
footprint MK06A_L (SOT23, 6-Leads, Body 3.0x1.7mm, Pitch 0.95mm, Lead Span 2.9mm, IPC High Density)
footprint MK06A_M (SOT23, 6-Leads, Body 3.0x1.7mm, Pitch 0.95mm, Lead Span 2.9mm, IPC Low Density)
pins: 1 VOUT (out), 2 V- (power), 3 +IN (in), 4 -IN (in), 5 NC, 6 V+ (power)

## LMP8640MKX-F/NOPB
designator U?
Precision High Voltage Current Sense Amplifier, 6 pin TSOT; PartNumber: LMP8640MKX-F/NOPB; Manufacturer: National Semiconductor; PackageTopMarking: AC6A*XTT; PowerWise: N; CompType: Amplifiers; Published: 16-Nov-2010; DatasheetVersion: Sep-2010; PackageVersion: revE, Nov-2008; PackageReference: MK06A; Publisher: Altium Limited; PackageDescription: Molded TSOT, 2.97 x 1.65 x 0.87mm Body, 6 Lead, 0.95mm Pitch; Supplier 1: Digi-Key; Supplier Part Number 1: LMP8640MKX-F/NOPB-ND; RoHS: Y; PinCount: 6; Code_JEDEC: MO-193-AA; Code_IPC: SOT26A-6; ComponentLink1Description: LMP8640 Datasheet; ComponentLink1URL: http://www.national.com/ds/LM/LMP8640.pdf; ComponentLink2Description: LMP8640 Web Page; ComponentLink2URL: http://www.national.com/pf/LM/LMP8640.html; ComponentLink3Description: MK06A Package Page; ComponentLink3URL: http://www.national.com/packaging/folders/mk06a.html
footprint MK06A_N (SOT23, 6-Leads, Body 3.0x1.7mm, Pitch 0.95mm, Lead Span 2.9mm, IPC Medium Density)
footprint MK06A_L (SOT23, 6-Leads, Body 3.0x1.7mm, Pitch 0.95mm, Lead Span 2.9mm, IPC High Density)
footprint MK06A_M (SOT23, 6-Leads, Body 3.0x1.7mm, Pitch 0.95mm, Lead Span 2.9mm, IPC Low Density)
pins: 1 VOUT (out), 2 V- (power), 3 +IN (in), 4 -IN (in), 5 NC, 6 V+ (power)

## LMP8640MKX-H/NOPB
designator U?
Precision High Voltage Current Sense Amplifier, 6 pin TSOT; PartNumber: LMP8640MKX-H/NOPB; Manufacturer: National Semiconductor; PackageTopMarking: AE6A*XTT; PowerWise: N; CompType: Amplifiers; Published: 16-Nov-2010; DatasheetVersion: Sep-2010; PackageVersion: revE, Nov-2008; PackageReference: MK06A; Publisher: Altium Limited; PackageDescription: Molded TSOT, 2.97 x 1.65 x 0.87mm Body, 6 Lead, 0.95mm Pitch; Supplier 1: Digi-Key; Supplier Part Number 1: LMP8640MKX-H/NOPB-ND; RoHS: Y; PinCount: 6; Code_JEDEC: MO-193-AA; Code_IPC: SOT26A-6; ComponentLink1Description: LMP8640 Datasheet; ComponentLink1URL: http://www.national.com/ds/LM/LMP8640.pdf; ComponentLink2Description: LMP8640 Web Page; ComponentLink2URL: http://www.national.com/pf/LM/LMP8640.html; ComponentLink3Description: MK06A Package Page; ComponentLink3URL: http://www.national.com/packaging/folders/mk06a.html
footprint MK06A_N (SOT23, 6-Leads, Body 3.0x1.7mm, Pitch 0.95mm, Lead Span 2.9mm, IPC Medium Density)
footprint MK06A_L (SOT23, 6-Leads, Body 3.0x1.7mm, Pitch 0.95mm, Lead Span 2.9mm, IPC High Density)
footprint MK06A_M (SOT23, 6-Leads, Body 3.0x1.7mm, Pitch 0.95mm, Lead Span 2.9mm, IPC Low Density)
pins: 1 VOUT (out), 2 V- (power), 3 +IN (in), 4 -IN (in), 5 NC, 6 V+ (power)

## LMP8640MKX-T/NOPB
designator U?
Precision High Voltage Current Sense Amplifier, 6 pin TSOT; PartNumber: LMP8640MKX-T/NOPB; Manufacturer: National Semiconductor; PackageTopMarking: AA6A*XTT; PowerWise: N; CompType: Amplifiers; Published: 16-Nov-2010; DatasheetVersion: Sep-2010; PackageVersion: revE, Nov-2008; PackageReference: MK06A; Publisher: Altium Limited; PackageDescription: Molded TSOT, 2.97 x 1.65 x 0.87mm Body, 6 Lead, 0.95mm Pitch; Supplier 1: Digi-Key; Supplier Part Number 1: LMP8640MKX-T/NOPB-ND; RoHS: Y; PinCount: 6; Code_JEDEC: MO-193-AA; Code_IPC: SOT26A-6; ComponentLink1Description: LMP8640 Datasheet; ComponentLink1URL: http://www.national.com/ds/LM/LMP8640.pdf; ComponentLink2Description: LMP8640 Web Page; ComponentLink2URL: http://www.national.com/pf/LM/LMP8640.html; ComponentLink3Description: MK06A Package Page; ComponentLink3URL: http://www.national.com/packaging/folders/mk06a.html
footprint MK06A_N (SOT23, 6-Leads, Body 3.0x1.7mm, Pitch 0.95mm, Lead Span 2.9mm, IPC Medium Density)
footprint MK06A_L (SOT23, 6-Leads, Body 3.0x1.7mm, Pitch 0.95mm, Lead Span 2.9mm, IPC High Density)
footprint MK06A_M (SOT23, 6-Leads, Body 3.0x1.7mm, Pitch 0.95mm, Lead Span 2.9mm, IPC Low Density)
pins: 1 VOUT (out), 2 V- (power), 3 +IN (in), 4 -IN (in), 5 NC, 6 V+ (power)

## LMP8645HVMK/NOPB
designator U?
Precision High Voltage Current Sense Amplifier, 6-pin Tiny SOT23, Pb-Free; PartNumber: LMP8645HVMK/NOPB; Manufacturer: National Semiconductor; PackageTopMarking: AK6A*XTT; PowerWise: N; CompType: Amplifiers; Published: 1-Mar-2010; DatasheetVersion: Feb-2010; PackageVersion: revE, Nov-2008; PackageReference: MK06A; Publisher: Altium Limited; PackageDescription: Molded TSOT, 2.97 x 1.65 x 0.87mm Body, 6 Lead, 0.95mm Pitch; Supplier 1: Digi-Key; Supplier Part Number 1: LMP8645HVMK-ND; RoHS: Y; PinCount: 6; Code_JEDEC: MO-193-AA; Code_IPC: SOT26A-6; ComponentLink1Description: LMP8645HV Datasheet; ComponentLink1URL: http://www.national.com/ds/LM/LMP8645.pdf; ComponentLink2Description: LMP8645HV Web Page; ComponentLink2URL: http://www.national.com/pf/LM/LMP8645HV.html; ComponentLink3Description: MK06A Package Page; ComponentLink3URL: http://www.national.com/packaging/folders/mk06a.html
footprint MK06A_N (SOT23, 6-Leads, Body 3.0x1.7mm, Pitch 0.95mm, Lead Span 2.9mm, IPC Medium Density)
footprint MK06A_L (SOT23, 6-Leads, Body 3.0x1.7mm, Pitch 0.95mm, Lead Span 2.9mm, IPC High Density)
footprint MK06A_M (SOT23, 6-Leads, Body 3.0x1.7mm, Pitch 0.95mm, Lead Span 2.9mm, IPC Low Density)
pins: 1 OUT (out), 2 V- (power), 3 IN+ (in), 4 IN- (in), 5 RG, 6 V+ (power)

## LMP8645HVMKE/NOPB
designator U?
Precision High Voltage Current Sense Amplifier, 6-pin Tiny SOT23, Pb-Free; PartNumber: LMP8645HVMKE/NOPB; Manufacturer: National Semiconductor; PackageTopMarking: AK6A*XTT; PowerWise: N; CompType: Amplifiers; Published: 1-Mar-2010; DatasheetVersion: Feb-2010; PackageVersion: revE, Nov-2008; PackageReference: MK06A; Publisher: Altium Limited; PackageDescription: Molded TSOT, 2.97 x 1.65 x 0.87mm Body, 6 Lead, 0.95mm Pitch; Supplier 1: Digi-Key; Supplier Part Number 1: LMP8645HVMKETR-ND; Supplier 2: Digi-Key; Supplier Part Number 2: LMP8645HVMKECT-ND; Supplier 3: Digi-Key; Supplier Part Number 3: LMP8645HVMKEDKR-ND; Supplier 4: Farnell; Supplier Part Number 4: 1791106; RoHS: Y; PinCount: 6; Code_JEDEC: MO-193-AA; Code_IPC: SOT26A-6; ComponentLink1Description: LMP8645HV Datasheet; ComponentLink1URL: http://www.national.com/ds/LM/LMP8645.pdf; ComponentLink2Description: LMP8645HV Web Page; ComponentLink2URL: http://www.national.com/pf/LM/LMP8645HV.html; ComponentLink3Description: MK06A Package Page; ComponentLink3URL: http://www.national.com/packaging/folders/mk06a.html
footprint MK06A_N (SOT23, 6-Leads, Body 3.0x1.7mm, Pitch 0.95mm, Lead Span 2.9mm, IPC Medium Density)
footprint MK06A_L (SOT23, 6-Leads, Body 3.0x1.7mm, Pitch 0.95mm, Lead Span 2.9mm, IPC High Density)
footprint MK06A_M (SOT23, 6-Leads, Body 3.0x1.7mm, Pitch 0.95mm, Lead Span 2.9mm, IPC Low Density)
pins: 1 OUT (out), 2 V- (power), 3 IN+ (in), 4 IN- (in), 5 RG, 6 V+ (power)

## LMP8645HVMKX/NOPB
designator U?
Precision High Voltage Current Sense Amplifier, 6-pin Tiny SOT23, Pb-Free; PartNumber: LMP8645HVMKX/NOPB; Manufacturer: National Semiconductor; PackageTopMarking: AK6A*XTT; PowerWise: N; CompType: Amplifiers; Published: 1-Mar-2010; DatasheetVersion: Feb-2010; PackageVersion: revE, Nov-2008; PackageReference: MK06A; Publisher: Altium Limited; PackageDescription: Molded TSOT, 2.97 x 1.65 x 0.87mm Body, 6 Lead, 0.95mm Pitch; Supplier 1: Digi-Key; Supplier Part Number 1: LMP8645HVMKX-ND; RoHS: Y; PinCount: 6; Code_JEDEC: MO-193-AA; Code_IPC: SOT26A-6; ComponentLink1Description: LMP8645HV Datasheet; ComponentLink1URL: http://www.national.com/ds/LM/LMP8645.pdf; ComponentLink2Description: LMP8645HV Web Page; ComponentLink2URL: http://www.national.com/pf/LM/LMP8645HV.html; ComponentLink3Description: MK06A Package Page; ComponentLink3URL: http://www.national.com/packaging/folders/mk06a.html
footprint MK06A_N (SOT23, 6-Leads, Body 3.0x1.7mm, Pitch 0.95mm, Lead Span 2.9mm, IPC Medium Density)
footprint MK06A_L (SOT23, 6-Leads, Body 3.0x1.7mm, Pitch 0.95mm, Lead Span 2.9mm, IPC High Density)
footprint MK06A_M (SOT23, 6-Leads, Body 3.0x1.7mm, Pitch 0.95mm, Lead Span 2.9mm, IPC Low Density)
pins: 1 OUT (out), 2 V- (power), 3 IN+ (in), 4 IN- (in), 5 RG, 6 V+ (power)

## LMP8645MK/NOPB
designator U?
Precision High Voltage Current Sense Amplifier, 6-pin Tiny SOT23, Pb-Free; PartNumber: LMP8645MK/NOPB; Manufacturer: National Semiconductor; PackageTopMarking: AJ6A*XTT; PowerWise: N; CompType: Amplifiers; Published: 1-Mar-2010; DatasheetVersion: Feb-2010; PackageVersion: revE, Nov-2008; PackageReference: MK06A; Publisher: Altium Limited; PackageDescription: Molded TSOT, 2.97 x 1.65 x 0.87mm Body, 6 Lead, 0.95mm Pitch; Supplier 1: Digi-Key; Supplier Part Number 1: LMP8645MK-ND; RoHS: Y; PinCount: 6; Code_JEDEC: MO-193-AA; Code_IPC: SOT26A-6; ComponentLink1Description: LMP8645 Datasheet; ComponentLink1URL: http://www.national.com/ds/LM/LMP8645.pdf; ComponentLink2Description: LMP8645 Web Page; ComponentLink2URL: http://www.national.com/pf/LM/LMP8645.html; ComponentLink3Description: MK06A Package Page; ComponentLink3URL: http://www.national.com/packaging/folders/mk06a.html
footprint MK06A_N (SOT23, 6-Leads, Body 3.0x1.7mm, Pitch 0.95mm, Lead Span 2.9mm, IPC Medium Density)
footprint MK06A_L (SOT23, 6-Leads, Body 3.0x1.7mm, Pitch 0.95mm, Lead Span 2.9mm, IPC High Density)
footprint MK06A_M (SOT23, 6-Leads, Body 3.0x1.7mm, Pitch 0.95mm, Lead Span 2.9mm, IPC Low Density)
pins: 1 OUT (out), 2 V- (power), 3 IN+ (in), 4 IN- (in), 5 RG, 6 V+ (power)

## LMP8645MKE/NOPB
designator U?
Precision High Voltage Current Sense Amplifier, 6-pin Tiny SOT23, Pb-Free; PartNumber: LMP8645MKE/NOPB; Manufacturer: National Semiconductor; PackageTopMarking: AJ6A*XTT; PowerWise: N; CompType: Amplifiers; Published: 1-Mar-2010; DatasheetVersion: Feb-2010; PackageVersion: revE, Nov-2008; PackageReference: MK06A; Publisher: Altium Limited; PackageDescription: Molded TSOT, 2.97 x 1.65 x 0.87mm Body, 6 Lead, 0.95mm Pitch; Supplier 1: Digi-Key; Supplier Part Number 1: LMP8645MKETR-ND; Supplier 2: Digi-Key; Supplier Part Number 2: LMP8645MKECT-ND; Supplier 3: Digi-Key; Supplier Part Number 3: LMP8645MKEDKR-ND; Supplier 4: Farnell; Supplier Part Number 4: 1791107; RoHS: Y; PinCount: 6; Code_JEDEC: MO-193-AA; Code_IPC: SOT26A-6; ComponentLink1Description: LMP8645 Datasheet; ComponentLink1URL: http://www.national.com/ds/LM/LMP8645.pdf; ComponentLink2Description: LMP8645 Web Page; ComponentLink2URL: http://www.national.com/pf/LM/LMP8645.html; ComponentLink3Description: MK06A Package Page; ComponentLink3URL: http://www.national.com/packaging/folders/mk06a.html
footprint MK06A_N (SOT23, 6-Leads, Body 3.0x1.7mm, Pitch 0.95mm, Lead Span 2.9mm, IPC Medium Density)
footprint MK06A_L (SOT23, 6-Leads, Body 3.0x1.7mm, Pitch 0.95mm, Lead Span 2.9mm, IPC High Density)
footprint MK06A_M (SOT23, 6-Leads, Body 3.0x1.7mm, Pitch 0.95mm, Lead Span 2.9mm, IPC Low Density)
pins: 1 OUT (out), 2 V- (power), 3 IN+ (in), 4 IN- (in), 5 RG, 6 V+ (power)

## LMP8645MKX/NOPB
designator U?
Precision High Voltage Current Sense Amplifier, 6-pin Tiny SOT23, Pb-Free; PartNumber: LMP8645MKX/NOPB; Manufacturer: National Semiconductor; PackageTopMarking: AJ6A*XTT; PowerWise: N; CompType: Amplifiers; Published: 1-Mar-2010; DatasheetVersion: Feb-2010; PackageVersion: revE, Nov-2008; PackageReference: MK06A; Publisher: Altium Limited; PackageDescription: Molded TSOT, 2.97 x 1.65 x 0.87mm Body, 6 Lead, 0.95mm Pitch; Supplier 1: Digi-Key; Supplier Part Number 1: LMP8645MKX-ND; RoHS: Y; PinCount: 6; Code_JEDEC: MO-193-AA; Code_IPC: SOT26A-6; ComponentLink1Description: LMP8645 Datasheet; ComponentLink1URL: http://www.national.com/ds/LM/LMP8645.pdf; ComponentLink2Description: LMP8645 Web Page; ComponentLink2URL: http://www.national.com/pf/LM/LMP8645.html; ComponentLink3Description: MK06A Package Page; ComponentLink3URL: http://www.national.com/packaging/folders/mk06a.html
footprint MK06A_N (SOT23, 6-Leads, Body 3.0x1.7mm, Pitch 0.95mm, Lead Span 2.9mm, IPC Medium Density)
footprint MK06A_L (SOT23, 6-Leads, Body 3.0x1.7mm, Pitch 0.95mm, Lead Span 2.9mm, IPC High Density)
footprint MK06A_M (SOT23, 6-Leads, Body 3.0x1.7mm, Pitch 0.95mm, Lead Span 2.9mm, IPC Low Density)
pins: 1 OUT (out), 2 V- (power), 3 IN+ (in), 4 IN- (in), 5 RG, 6 V+ (power)

## LMV112SD
designator U?
40 MHz Dual Clock Buffer, 8-pin LLP; PartNumber: LMV112SD; Manufacturer: National Semiconductor; PackageTopMarking: ZXYTT*112SD; PowerWise: N; CompType: Amplifiers; Published: 4-Dec-2008; DatasheetVersion: Jun-2005; PackageVersion: revA, Aug-2003; PackageReference: SDA08A; Publisher: Altium Limited; PackageDescription: LLP, Plastic, Dual, 3 x 3 x 0.8mm Body, 8 Lead, 0.5mm Pitch, No Pullback; RoHS: N; PinCount: 8; ComponentLink1Description: LMV112 Datasheet; ComponentLink1URL: http://www.national.com/ds/LM/LMV112.pdf; ComponentLink2Description: LMV112 Web Page; ComponentLink2URL: http://www.national.com/pf/LM/LMV112.html; ComponentLink3Description: SDA08A Package Page; ComponentLink3URL: http://www.national.com/packaging/folders/sda08a.html
footprint SDA08A (SON, 8-Leads, Body 3x3mm, Pitch 0.5mm, NSC Recommended)
pins on every part: 1 VDD (power), 5 VSS (power)
part A pins: 2 IN1 (in), 7 OUT1 (out), 8 EN1 (in)
part B pins: 3 IN2 (in), 4 EN2 (in), 6 OUT2 (out)
part C pins: 9 DAP

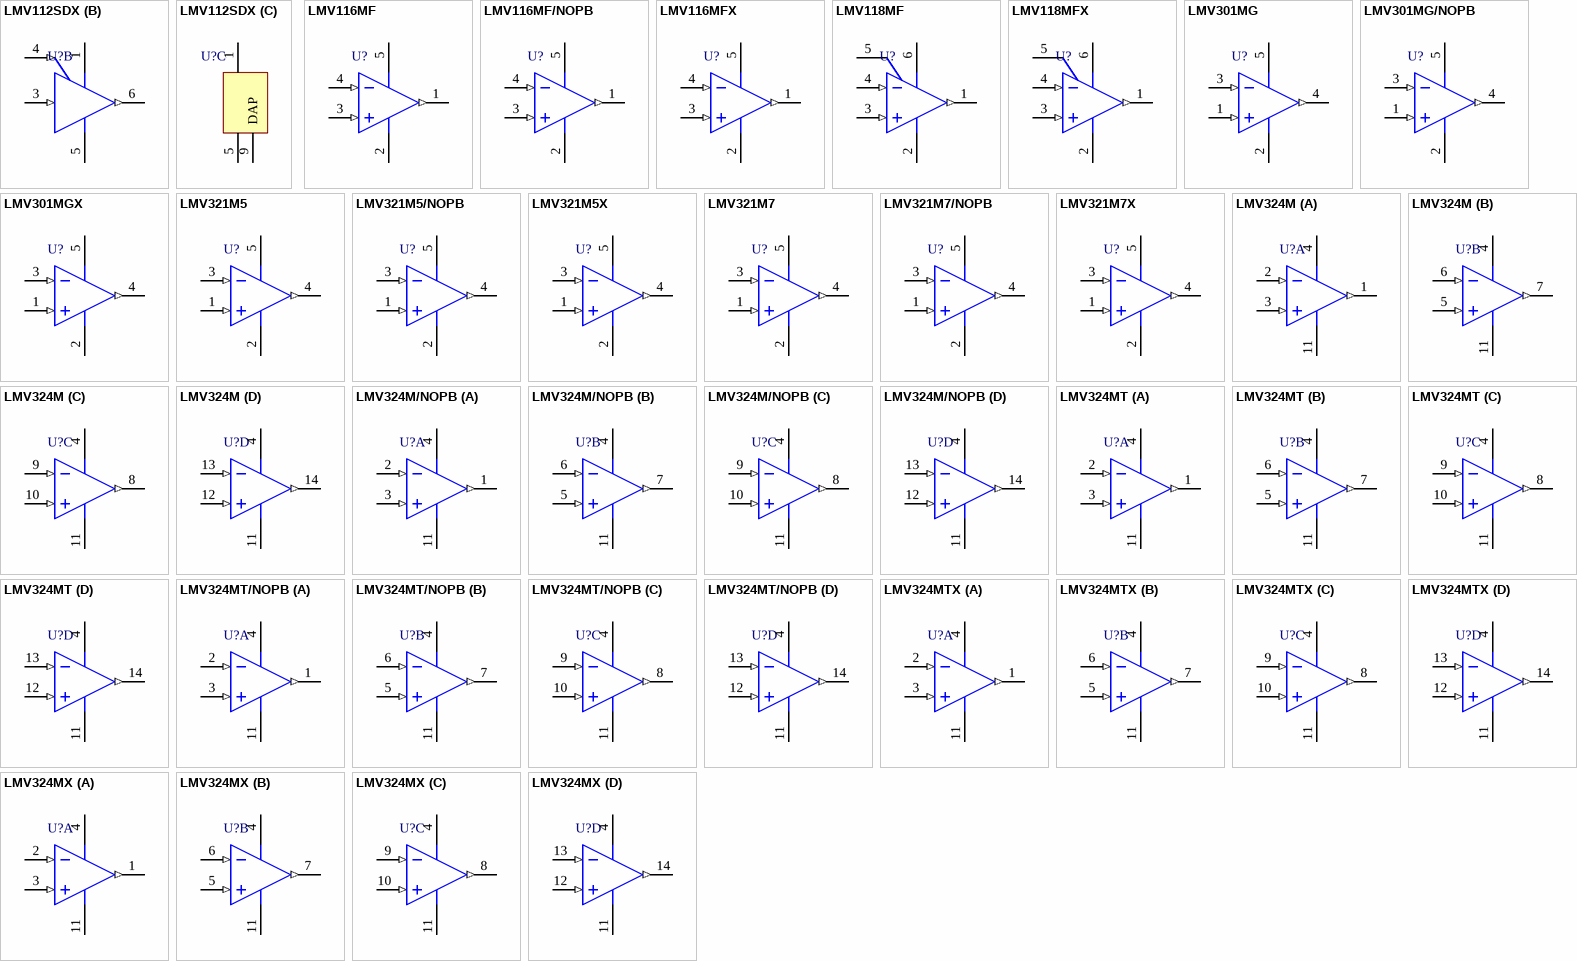
[diagram p65: symbols LMV112SDX to LMV324MX]

## LMV112SDX
designator U?
40 MHz Dual Clock Buffer, 8-pin LLP; PartNumber: LMV112SDX; Manufacturer: National Semiconductor; PackageTopMarking: ZXYTT*112SD; PowerWise: N; CompType: Amplifiers; Published: 1-Mar-2010; DatasheetVersion: Jun-2005; PackageVersion: revA, Aug-2003; PackageReference: SDA08A; Publisher: Altium Limited; PackageDescription: LLP, Plastic, Dual, 3 x 3 x 0.8mm Body, 8 Lead, 0.5mm Pitch, No Pullback; RoHS: N; PinCount: 8; ComponentLink1Description: LMV112 Datasheet; ComponentLink1URL: http://www.national.com/ds/LM/LMV112.pdf; ComponentLink2Description: LMV112 Web Page; ComponentLink2URL: http://www.national.com/pf/LM/LMV112.html; ComponentLink3Description: SDA08A Package Page; ComponentLink3URL: http://www.national.com/packaging/folders/sda08a.html
footprint SDA08A (SON, 8-Leads, Body 3x3mm, Pitch 0.5mm, NSC Recommended)
pins on every part: 1 VDD (power), 5 VSS (power)
part A pins: 2 IN1 (in), 7 OUT1 (out), 8 EN1 (in)
part B pins: 3 IN2 (in), 4 EN2 (in), 6 OUT2 (out)
part C pins: 9 DAP

## LMV116MF
designator U?
Low Voltage, 45MHz, Rail-to-Rail Output Operational Amplifiers with Shutdown Option, 5-pin SOT-23; PartNumber: LMV116MF; Manufacturer: National Semiconductor; PackageTopMarking: AC1A*XTT; PowerWise: N; Published: 4-Dec-2008; DatasheetVersion: Oct-2003; PackageVersion: revD, Aug-2008; PackageReference: MF05A; Publisher: Altium Limited; PackageDescription: Molded SOT-23, .115 x .063 x .040 in Body, 5 Lead, .0375 in Pitch; Supplier 1: Farnell; Supplier Part Number 1: 8187622; RoHS: N; PinCount: 5; CompType: Amplifiers; ComponentLink1Description: LMV116 Datasheet; ComponentLink1URL: http://www.national.com/ds/LM/LMV116.pdf; ComponentLink2Description: LMV116 Web Page; ComponentLink2URL: http://www.national.com/pf/LM/LMV116.html; ComponentLink3Description: MF05A Package Page; ComponentLink3URL: http://www.national.com/packaging/folders/mf05a.html
footprint MF05A_N (SOT23, 5-Leads, Body 2.9x1.6mm, Pitch 0.95mm, Lead Span 2.8mm, IPC Medium Density)
footprint MF05A_L (SOT23, 5-Leads, Body 2.9x1.6mm, Pitch 0.95mm, Lead Span 2.8mm, IPC High Density)
footprint MF05A_M (SOT23, 5-Leads, Body 2.9x1.6mm, Pitch 0.95mm, Lead Span 2.8mm, IPC Low Density)
pins: 1 OUT (out), 2 V- (power), 3 IN+ (in), 4 IN- (in), 5 V+ (power)

## LMV116MF/NOPB
designator U?
Low Voltage, 45MHz, Rail-to-Rail Output Operational Amplifiers with Shutdown Option, 5-pin SOT-23, Pb-Free; PartNumber: LMV116MF/NOPB; Manufacturer: National Semiconductor; PackageTopMarking: AC1A*XTT; PowerWise: N; Published: 1-Mar-2010; DatasheetVersion: Oct-2003; PackageVersion: revD, Aug-2008; PackageReference: MF05A; Publisher: Altium Limited; PackageDescription: Molded SOT-23, .115 x .063 x .040 in Body, 5 Lead, .0375 in Pitch; Supplier 1: Digi-Key; Supplier Part Number 1: LMV116MFTR-ND; Supplier 2: Digi-Key; Supplier Part Number 2: LMV116MFCT-ND; Supplier 3: Digi-Key; Supplier Part Number 3: LMV116MFDKR-ND; Supplier 4: Farnell; Supplier Part Number 4: 1496045; RoHS: Y; PinCount: 5; CompType: Amplifiers; ComponentLink1Description: LMV116 Datasheet; ComponentLink1URL: http://www.national.com/ds/LM/LMV116.pdf; ComponentLink2Description: LMV116 Web Page; ComponentLink2URL: http://www.national.com/pf/LM/LMV116.html; ComponentLink3Description: MF05A Package Page; ComponentLink3URL: http://www.national.com/packaging/folders/mf05a.html
footprint MF05A_N (SOT23, 5-Leads, Body 2.9x1.6mm, Pitch 0.95mm, Lead Span 2.8mm, IPC Medium Density)
footprint MF05A_L (SOT23, 5-Leads, Body 2.9x1.6mm, Pitch 0.95mm, Lead Span 2.8mm, IPC High Density)
footprint MF05A_M (SOT23, 5-Leads, Body 2.9x1.6mm, Pitch 0.95mm, Lead Span 2.8mm, IPC Low Density)
pins: 1 OUT (out), 2 V- (power), 3 IN+ (in), 4 IN- (in), 5 V+ (power)